# Altium footprint library HP02S0300WI.PcbLib: 1 footprints
Each footprint in its own frame and in the unit in brackets; x right, y up, seen from the top. Pads: shape width x height; smd on the part's side, far side on the other; paste and mask are expansions set on the pad; w line width, h text height; cw(c..) or ccw(c..) is an arc to the next point about the centre after c.
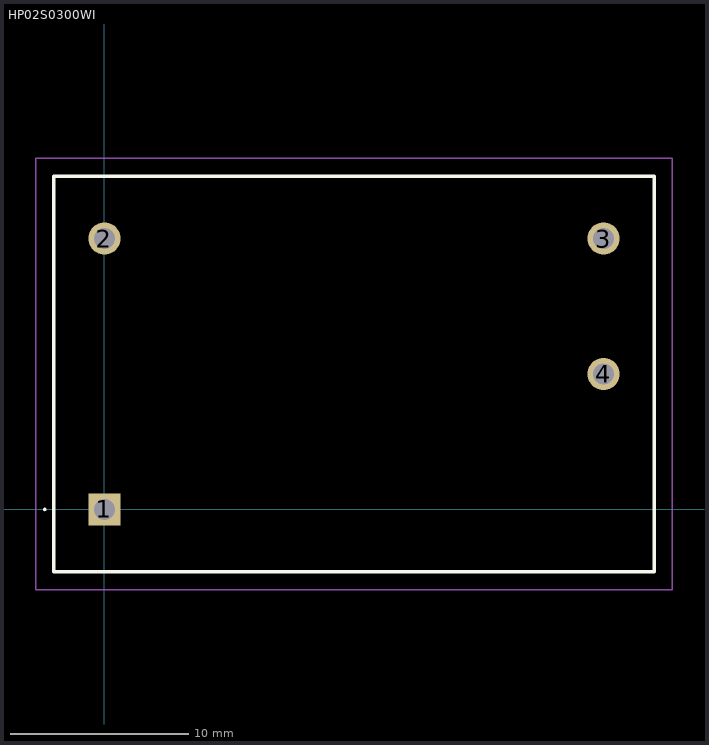
[diagram p0: the footprint, top view; thin cyan lines are the x and y axes]

## HP02S0300WI [mm]
pads (4):
  rect 1.8x1.8 hole 1.2: 1(0,0)
  round 1.8 hole 1.2: 2(0,15.2) 3(28,15.2) 4(28,7.6)
Top Overlay:
  lines w0.1: -3.4,0 -3.4,0 ; -3.4,0 ccw(c-3.35,0) -3.3,0 ; -3.4,0 cw(c-3.35,0) -3.3,0 ; -3.3,0 -3.3,0
  lines w0.2: -2.85,-3.5 30.85,-3.5 30.85,18.7 -2.85,18.7 -2.85,-3.5
Mechanical 15:
  lines w0.1: -2.85,-3.5 30.85,-3.5 30.85,18.7 -2.85,18.7 -2.85,-3.5
Mechanical 20:
  lines w0.1: -3.85,-4.5 31.85,-4.5 31.85,19.7 -3.85,19.7 -3.85,-4.5